# Altium footprint library LFCSP-32_5142.48-А_SHIELD.PcbLib: 1 footprints
Each footprint in its own frame and in the unit in brackets; x right, y up, seen from the top. Pads: shape width x height; smd on the part's side, far side on the other; paste and mask are expansions set on the pad; w line width, h text height; cw(c..) or ccw(c..) is an arc to the next point about the centre after c.
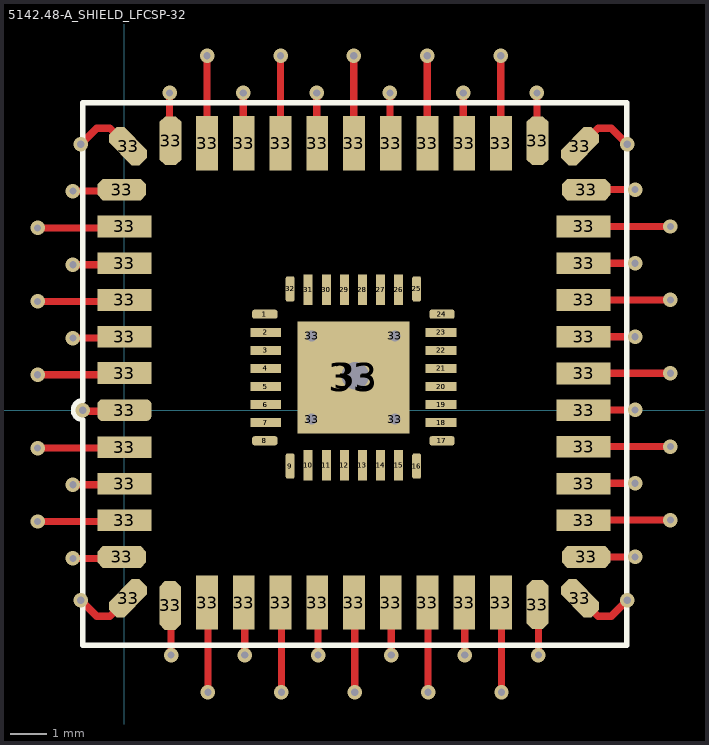
[diagram p0: the footprint, top view; thin cyan lines are the x and y axes]

## 5142.48-А_SHIELD_LFCSP-32 [mm]
pads (119):
  rrect50% 0.7x0.25 smd mask+0.05: 1(3.883,2.653) 8(3.883,-0.847) 17(8.783,-0.847) 24(8.783,2.653)
  rrect50% 0.7x0.25 on Mid1 mask+0.05: 1(3.883,2.653) 8(3.883,-0.847) 17(8.783,-0.847) 24(8.783,2.653)
  rect 0.85x0.25 smd mask+0.05: 2(3.908,2.153) 3(3.908,1.653) 4(3.908,1.153) 5(3.908,0.653) 6(3.908,0.153) 7(3.908,-0.347) 18(8.758,-0.347) 19(8.758,0.153) 20(8.758,0.653) 21(8.758,1.153) 22(8.758,1.653) 23(8.758,2.153)
  rect 0.85x0.25 on Mid1 mask+0.05: 2(3.908,2.153) 3(3.908,1.653) 4(3.908,1.153) 5(3.908,0.653) 6(3.908,0.153) 7(3.908,-0.347) 18(8.758,-0.347) 19(8.758,0.153) 20(8.758,0.653) 21(8.758,1.153) 22(8.758,1.653) 23(8.758,2.153)
  rrect50% 0.25x0.7 smd mask+0.05: 9(4.583,-1.547) 16(8.083,-1.547) 25(8.083,3.353) 32(4.583,3.353)
  rrect50% 0.25x0.7 on Mid1 mask+0.05: 9(4.583,-1.547) 16(8.083,-1.547) 25(8.083,3.353) 32(4.583,3.353)
  rect 0.25x0.85 smd mask+0.05: 10(5.083,-1.522) 11(5.583,-1.522) 12(6.083,-1.522) 13(6.583,-1.522) 14(7.083,-1.522) 15(7.583,-1.522) 26(7.583,3.328) 27(7.083,3.328) 28(6.583,3.328) 29(6.083,3.328) 30(5.583,3.328) 31(5.083,3.328)
  rect 0.25x0.85 on Mid1 mask+0.05: 10(5.083,-1.522) 11(5.583,-1.522) 12(6.083,-1.522) 13(6.583,-1.522) 14(7.083,-1.522) 15(7.583,-1.522) 26(7.583,3.328) 27(7.083,3.328) 28(6.583,3.328) 29(6.083,3.328) 30(5.583,3.328) 31(5.083,3.328)
  oct 1.35x0.6 smd: 33(-0.075,-4.06) 33(-0.075,6.1) 33(12.775,-4.06) 33(12.775,6.1)
  rect 1.5x0.6 smd: 33(0,-3.048) 33(0,-2.032) 33(0,-1.025) 33(0,1.025) 33(0,2.032) 33(0,3.048) 33(0,4.064) 33(0,5.08) 33(12.7,-3.048) 33(12.7,-2.032) 33(12.7,-1.016) 33(12.7,0) 33(12.7,1.016) 33(12.7,2.032) 33(12.7,3.048) 33(12.7,4.064) 33(12.7,5.08)
  rrect50% 1.5x0.6 smd: 33(0,0)
  oct 0.6x1.2 smd rot 135: 33(0.1,-5.2) 33(12.6,7.3)
  oct 0.6x1.2 smd rot 45: 33(0.1,7.3) 33(12.6,-5.2)
  oct 0.6x1.35 smd: 33(1.265,-5.4) 33(1.275,7.45) 33(11.425,-5.375) 33(11.425,7.45)
  rect 0.6x1.5 smd: 33(2.286,-5.32) 33(2.286,7.38) 33(3.302,-5.32) 33(3.302,7.38) 33(4.318,-5.32) 33(4.318,7.38) 33(5.334,-5.32) 33(5.334,7.38) 33(6.35,-5.32) 33(6.35,7.38) 33(7.366,-5.32) 33(7.366,7.38) 33(8.382,-5.32) 33(8.382,7.38) 33(9.398,-5.32) 33(9.398,7.38) 33(10.414,-5.32) 33(10.414,7.38)
  round 0.5 hole 0.3: 33(5.183,-0.247) 33(5.183,2.053) 33(7.483,-0.247) 33(7.483,2.053)
  rect 3.1x3.1 smd mask+0.05: 33(6.333,0.903)
  rect 3.1x3.1 on Mid1 mask+0.05: 33(6.333,0.903)
  round 1.524 hole 0.762: 33(6.383,0.953)
via -1.206,7.356 diameter 0.4 hole 0.2
via 13.906,7.356 diameter 0.4 hole 0.2
via 13.906,-5.256 diameter 0.4 hole 0.2
via -1.206,-5.256 diameter 0.4 hole 0.2
via -1.15,0 diameter 0.4 hole 0.2
via 15.1,-3.04 diameter 0.4 hole 0.2
via 15.1,-1.008 diameter 0.4 hole 0.2
via 15.1,1.024 diameter 0.4 hole 0.2
via 15.1,3.048 diameter 0.4 hole 0.2
via 15.1,5.08 diameter 0.4 hole 0.2
via 10.406,9.8 diameter 0.4 hole 0.2
via 8.374,9.8 diameter 0.4 hole 0.2
via 6.342,9.8 diameter 0.4 hole 0.2
via 4.318,9.8 diameter 0.4 hole 0.2
via 2.286,9.8 diameter 0.4 hole 0.2
via -2.4,5.04 diameter 0.4 hole 0.2
via -2.4,3.008 diameter 0.4 hole 0.2
via -2.4,0.976 diameter 0.4 hole 0.2
via -2.4,-1.048 diameter 0.4 hole 0.2
via -2.4,-3.08 diameter 0.4 hole 0.2
via 2.31,-7.8 diameter 0.4 hole 0.2
via 4.342,-7.8 diameter 0.4 hole 0.2
via 6.374,-7.8 diameter 0.4 hole 0.2
via 8.398,-7.8 diameter 0.4 hole 0.2
via 10.43,-7.8 diameter 0.4 hole 0.2
via 14.125,6.1 diameter 0.4 hole 0.2
via 14.125,4.064 diameter 0.4 hole 0.2
via 14.125,2.032 diameter 0.4 hole 0.2
via 14.125,-4.06 diameter 0.4 hole 0.2
via 14.125,-2.024 diameter 0.4 hole 0.2
via 14.125,0.008 diameter 0.4 hole 0.2
via -1.425,-4.1 diameter 0.4 hole 0.2
via -1.425,-2.064 diameter 0.4 hole 0.2
via -1.425,6.06 diameter 0.4 hole 0.2
via -1.425,4.024 diameter 0.4 hole 0.2
via 11.45,-6.775 diameter 0.4 hole 0.2
via 9.414,-6.775 diameter 0.4 hole 0.2
via 7.382,-6.775 diameter 0.4 hole 0.2
via 1.29,-6.775 diameter 0.4 hole 0.2
via 3.326,-6.775 diameter 0.4 hole 0.2
via 5.358,-6.775 diameter 0.4 hole 0.2
via 1.25,8.775 diameter 0.4 hole 0.2
via 3.286,8.775 diameter 0.4 hole 0.2
via 5.318,8.775 diameter 0.4 hole 0.2
via 11.41,8.775 diameter 0.4 hole 0.2
via 9.374,8.775 diameter 0.4 hole 0.2
via 7.342,8.775 diameter 0.4 hole 0.2
via -1.425,1.992 diameter 0.4 hole 0.2
Top Layer:
  lines w0.2: -2.4,-3.08 0,-3.08 ; -2.4,-1.048 0,-1.048 ; -2.4,0.976 0,0.976 ; -2.4,3.008 0,3.008 ; -2.4,5.04 0,5.04 ; -1.425,-4.1 0,-4.1 ; -1.425,-2.064 0,-2.064 ; -1.425,1.992 0,1.992 ; -1.425,4.024 0,4.024 ; -1.425,6.06 0,6.06 ; -1.206,-5.256 -0.762,-5.7 -0.4,-5.7 0.1,-5.2 ; -1.206,7.356 -0.762,7.8 -0.4,7.8 0.1,7.3 ; -1.15,-0.032 0,-0.032 ; 1.25,7.35 1.25,8.775 ; 1.29,-6.775 1.29,-5.35 ; 2.286,7.38 2.286,9.8 ; 2.31,-7.8 2.31,-5.35 ; 3.286,7.35 3.286,8.775 ; 3.326,-6.775 3.326,-5.35 ; 4.318,7.38 4.318,9.8 ; 4.342,-7.8 4.342,-5.35 ; 5.318,7.35 5.318,8.775 ; 5.358,-6.775 5.358,-5.35 ; 6.342,7.38 6.342,9.8 ; 6.374,-7.8 6.374,-5.35 ; 7.342,7.35 7.342,8.775 ; 7.382,-6.775 7.382,-5.35 ; 8.374,7.38 8.374,9.8 ; 8.398,-7.8 8.398,-5.35 ; 9.374,7.35 9.374,8.775 ; 9.414,-6.775 9.414,-5.35 ; 10.406,7.38 10.406,9.8 ; 10.43,-7.8 10.43,-5.35 ; 11.41,7.35 11.41,8.775 ; 11.45,-6.775 11.45,-5.35 ; 12.6,-5.2 13.1,-5.7 13.462,-5.7 13.906,-5.256 ; 12.6,7.3 13.1,7.8 13.462,7.8 13.906,7.356 ; 12.7,-4.06 14.125,-4.06 ; 12.7,-3.04 15.1,-3.04 ; 12.7,-2.024 14.125,-2.024 ; 12.7,-1.008 15.1,-1.008 ; 12.7,0.008 14.125,0.008 ; 12.7,1.024 15.1,1.024 ; 12.7,2.032 14.125,2.032 ; 12.7,3.048 15.1,3.048 ; 12.7,4.064 14.125,4.064 ; 12.7,5.08 15.1,5.08 ; 12.7,6.1 14.125,6.1
Top Overlay:
  lines w0.15: -1.15,-0.26 cw(c-1.15,0) -1.15,0.259
  lines w0.152: -1.15,-0.26 -1.15,-6.5 13.9,-6.5 13.9,8.5 -1.15,8.5 -1.15,0.259
3D body "korpus_5142.48-a.stp": height 2.12, standoff 0, extent 0,-5.35 12.7,7.35